# Altium schematic symbol library GTG1615RGB.SchLib: 1 symbol
Pins are listed as number, name and electrical type; pins without a type are passive.

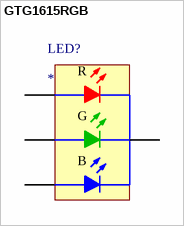
[diagram p0: symbol GTG1615RGB]

## GTG1615RGB
designator LED?
pins: 1 COM (power), 2 R, 3 G, 4 B